# Altium schematic symbol library MSP430G2553.SchLib: 1 symbol
Pins are listed as number, name and electrical type; pins without a type are passive.

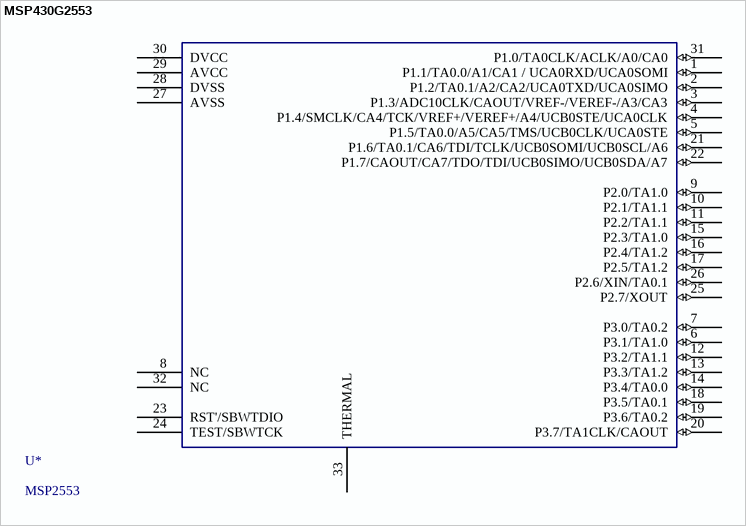
[diagram p0: symbol MSP430G2553]

## MSP430G2553
designator U*, comment MSP2553
MSP4302553 Microcontroller, QFN package
footprint QFN32
pins: 1 P1.1/TA0.0/A1/CA1 / UCA0RXD/UCA0SOMI (io), 2 P1.2/TA0.1/A2/CA2/UCA0TXD/UCA0SIMO (io), 3 P1.3/ADC10CLK/CAOUT/VREF-/VEREF-/A3/CA3 (io), 4 P1.4/SMCLK/CA4/TCK/VREF+/VEREF+/A4/UCB0STE/UCA0CLK (io), 5 P1.5/TA0.0/A5/CA5/TMS/UCB0CLK/UCA0STE (io), 6 P3.1/TA1.0 (io), 7 P3.0/TA0.2 (io), 8 NC, 9 P2.0/TA1.0 (io), 10 P2.1/TA1.1 (io), 11 P2.2/TA1.1 (io), 12 P3.2/TA1.1 (io), 13 P3.3/TA1.2 (io), 14 P3.4/TA0.0 (io), 15 P2.3/TA1.0 (io), 16 P2.4/TA1.2 (io), 17 P2.5/TA1.2 (io), 18 P3.5/TA0.1 (io), 19 P3.6/TA0.2 (io), 20 P3.7/TA1CLK/CAOUT (io), 21 P1.6/TA0.1/CA6/TDI/TCLK/UCB0SOMI/UCB0SCL/A6 (io), 22 P1.7/CAOUT/CA7/TDO/TDI/UCB0SIMO/UCB0SDA/A7 (io), 23 RST'/SBWTDIO, 24 TEST/SBWTCK, 25 P2.7/XOUT (io), 26 P2.6/XIN/TA0.1 (io), 27 AVSS, 28 DVSS, 29 AVCC, 30 DVCC, 31 P1.0/TA0CLK/ACLK/A0/CA0 (io), 32 NC, 33 THERMAL